# Altium footprint library Pcb_Diodes.PcbLib: 2 footprints
Each footprint in its own frame and in the unit in brackets; x right, y up, seen from the top. Pads: shape width x height; smd on the part's side, far side on the other; paste and mask are expansions set on the pad; w line width, h text height; cw(c..) or ccw(c..) is an arc to the next point about the centre after c.
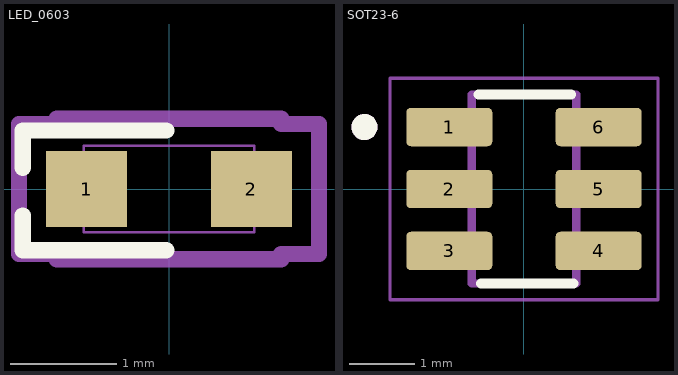
[diagram p0: the footprints below, top view; thin cyan lines are the x and y axes]

## LED_0603 [mil]
pads (2):
  rect 30x28 smd paste+0 mask+0: 1(-30.5,0) 2(30.5,0)
Top Overlay:
  lines w6.02: -54.13,-9.84 -54.13,-22.64 -0.98,-22.64 ; -54.13,7.87 -54.13,20.67 ; -54.13,21.65 -0.98,21.65
Mechanical 13:
  circle w0: c-30.5,0 r3
  lines w1: -31.5,-16 31.5,-16 31.5,16 -31.5,16 -31.5,-16 ; -31.5,-14 -31.5,14 -31.5,-14 ; 31.5,-14 31.5,14 31.5,-14
Mechanical 15:
  lines w6: -55.5,-24 -55.5,24 -41.5,24 -41.5,26 41.5,26 41.5,24 55.5,24 55.5,-24 41.5,-24 41.5,-26 -41.5,-26 -41.5,-24 -55.5,-24
3D body "LTST-C191KGKT.STEP": height 21.65, standoff 0, extent -36.5,-15 26.5,16.5

## SOT23-6 [mm]
height 1.45
pads (6):
  rrect25% 1.32x0.59 smd: 1(-1.145,0.95) 2(-1.145,0) 3(-1.145,-0.95) 4(1.145,-0.95) 5(1.145,0) 6(1.145,0.95)
Top Overlay:
  circle w0.2: c-2.445,0.95 r0.1
  lines w0.153: -0.7,1.45 0.725,1.45 ; -0.663,-1.45 0.762,-1.45
Mechanical 13:
  circle w0.2: c-2.445,0.95 r0.1
  lines w0.127: -0.8,-1.45 0.8,-1.45 0.8,1.45 -0.8,1.45 -0.8,-1.45
Mechanical 15:
  lines w0.05: -2.055,-1.7 2.055,-1.7 2.055,1.7 -2.055,1.7 -2.055,-1.7
3D body "step_temp.STEP": height 1.45, standoff 0, extent -1.35,-1.45 1.35,1.45